# Altium footprint library ERM_OPTO_Long.PcbLib: 2 footprints
Each footprint in its own frame and in the unit in brackets; x right, y up, seen from the top. Pads: shape width x height; smd on the part's side, far side on the other; paste and mask are expansions set on the pad; w line width, h text height; cw(c..) or ccw(c..) is an arc to the next point about the centre after c.
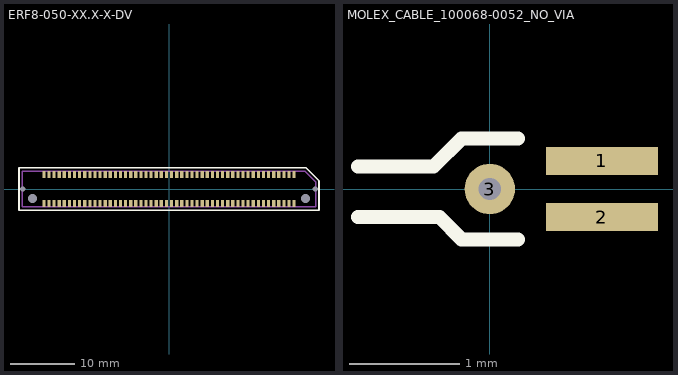
[diagram p0: the footprints below, top view; thin cyan lines are the x and y axes]

## ERF8-050-XX.X-X-DV [mm]
pads (104):
  rect 0.5x1.1 smd mask+0.05: 1(19.6,2.25) 2(19.6,-2.25) 3(18.8,2.25) 4(18.8,-2.25) 5(18,2.25) 6(18,-2.25) 7(17.2,2.25) 8(17.2,-2.25) 9(16.4,2.25) 10(16.4,-2.25) 11(15.6,2.25) 12(15.6,-2.25) 13(14.8,2.25) 14(14.8,-2.25) 15(14,2.25) 16(14,-2.25) 17(13.2,2.25) 18(13.2,-2.25) 19(12.4,2.25) 20(12.4,-2.25) 21(11.6,2.25) 22(11.6,-2.25) 23(10.8,2.25) 24(10.8,-2.25) 25(10,2.25) 26(10,-2.25) 27(9.2,2.25) 28(9.2,-2.25) 29(8.4,2.25) 30(8.4,-2.25) 31(7.6,2.25) 32(7.6,-2.25) 33(6.8,2.25) 34(6.8,-2.25) 35(6,2.25) 36(6,-2.25) 37(5.2,2.25) 38(5.2,-2.25) 39(4.4,2.25) 40(4.4,-2.25) 41(3.6,2.25) 42(3.6,-2.25) 43(2.8,2.25) 44(2.8,-2.25) 45(2,2.25) 46(2,-2.25) 47(1.2,2.25) 48(1.2,-2.25) 49(0.4,2.25) 50(0.4,-2.25) 51(-0.4,2.25) 52(-0.4,-2.25) 53(-1.2,2.25) 54(-1.2,-2.25) 55(-2,2.25) 56(-2,-2.25) 57(-2.8,2.25) 58(-2.8,-2.25) 59(-3.6,2.25) 60(-3.6,-2.25) 61(-4.4,2.25) 62(-4.4,-2.25) 63(-5.2,2.25) 64(-5.2,-2.25) 65(-6,2.25) 66(-6,-2.25) 67(-6.8,2.25) 68(-6.8,-2.25) 69(-7.6,2.25) 70(-7.6,-2.25) 71(-8.4,2.25) 72(-8.4,-2.25) 73(-9.2,2.25) 74(-9.2,-2.25) 75(-10,2.25) 76(-10,-2.25) 77(-10.8,2.25) 78(-10.8,-2.25) 79(-11.6,2.25) 80(-11.6,-2.25) 81(-12.4,2.25) 82(-12.4,-2.25) 83(-13.2,2.25) 84(-13.2,-2.25) 85(-14,2.25) 86(-14,-2.25) 87(-14.8,2.25) 88(-14.8,-2.25) 89(-15.6,2.25) 90(-15.6,-2.25) 91(-16.4,2.25) 92(-16.4,-2.25) 93(-17.2,2.25) 94(-17.2,-2.25) 95(-18,2.25) 96(-18,-2.25) 97(-18.8,2.25) 98(-18.8,-2.25) 99(-19.6,2.25) 100(-19.6,-2.25)
  round 0 hole 1.45 unplated: MH1(21.4,-1.5) MH2(-21.4,-1.5)
  round 0 hole 0.83 unplated: MH2(-22.9,0) MH2(22.9,0)
Top Overlay:
  lines w0.25: -23.5,-3.3 23.5,-3.3 23.5,1.3 21.5,3.3 -23.5,3.3 -23.5,-3.3
Mechanical 1:
  lines w0.25: -23,-2.8 23,-2.8 23,1.1 21.3,2.8 -23,2.8 -23,-2.8
Mechanical 15:
  text "J1" at 18.301,-4 h0.75
3D body "ERF8-050-05.0-L-DV-L-TR.stp": height 5.3, standoff -1.08, extent -23.75,-2.8 23.75,2.8

## MOLEX_CABLE_100068-0052_NO_VIA [mil] "SM1206 EMI Filter"
pads (3):
  rect 40x10 smd: 1(40,10) 2(40,-10)
  round 18 hole 8: 3(0,0)
Top Overlay:
  lines w5: -47,-10 -18,-10 -10,-18 10,-18 ; -47,8 -20,8 -10,18 10,18
Mechanical 15:
  text ".Designator" at -22.96,-56.25 h30